# EAGLE library part DS275 (library EW_IC_Comms)
Line-Powered RS-232 Transceiver Chip Source: http://www.maxim-ic.com .. DS275.pdf
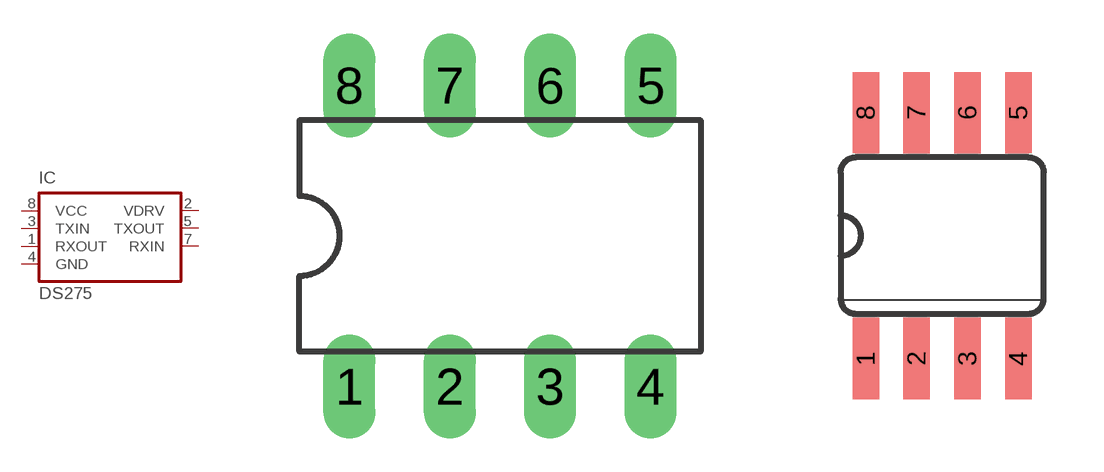
[diagram p82: symbol with the pads of DIL08; footprints DIL08, SO08]

Designator prefix IC

## DS275 (MPN: DS275+; OC_FARNELL: unknown; OC_NEWARK: 88K4212)  [DIL08]
1  RXOUT  out
2  VDRV  in
3  TXIN  in
4  GND  pwr
5  TXOUT  out
7  RXIN  in
8  VCC  pwr

## DS275S (MF: DALLAS SEMICONDUCTOR; MPN: DS275S+; OC_FARNELL: unknown; OC_NEWARK: 60K9389)  [SO08]
Pads as for DIL08

## DS275E (OC_FARNELL: unknown; OC_NEWARK: unknown)  [TSSOP14]
1  RXOUT  out
3  VDRV  in
5  TXIN  in
7  GND  pwr
8  TXOUT  out
11  RXIN  in
14  VCC  pwr

## Footprint DIL08 (pad centres in mm)
Dual In Line Package
drill 0.813 long: 1 -3.81,-3.81; 2 -1.27,-3.81; 3 1.27,-3.81; 4 3.81,-3.81; 5 3.81,3.81; 6 1.27,3.81; 7 -1.27,3.81; 8 -3.81,3.81

## Footprint SO08 (pad centres in mm)
Small Outline Package SOIC 150 mil
smd 0.66 x 2.032: 1 -1.905,-3.073; 2 -0.635,-3.073; 3 0.635,-3.073; 4 1.905,-3.073; 5 1.905,3.073; 6 0.635,3.073; 7 -0.635,3.073; 8 -1.905,3.073

## Footprint TSSOP14 (pad centres in mm)
Thin Shrink Small Outline Plastic 14 MAX3223-MAX3243.pdf
smd 0.305 x 0.991: 1 -1.95,-2.918; 2 -1.3,-2.918; 3 -0.65,-2.918; 4 0,-2.918; 5 0.65,-2.918; 6 1.3,-2.918; 7 1.95,-2.918; 8 1.95,2.918; 9 1.3,2.918; 10 0.65,2.918; 11 0,2.918; 12 -0.65,2.918; 13 -1.3,2.918; 14 -1.95,2.918